# Altium schematic symbol library [R] Резисторы.SchLib: 168 symbols (part 2 of 2)
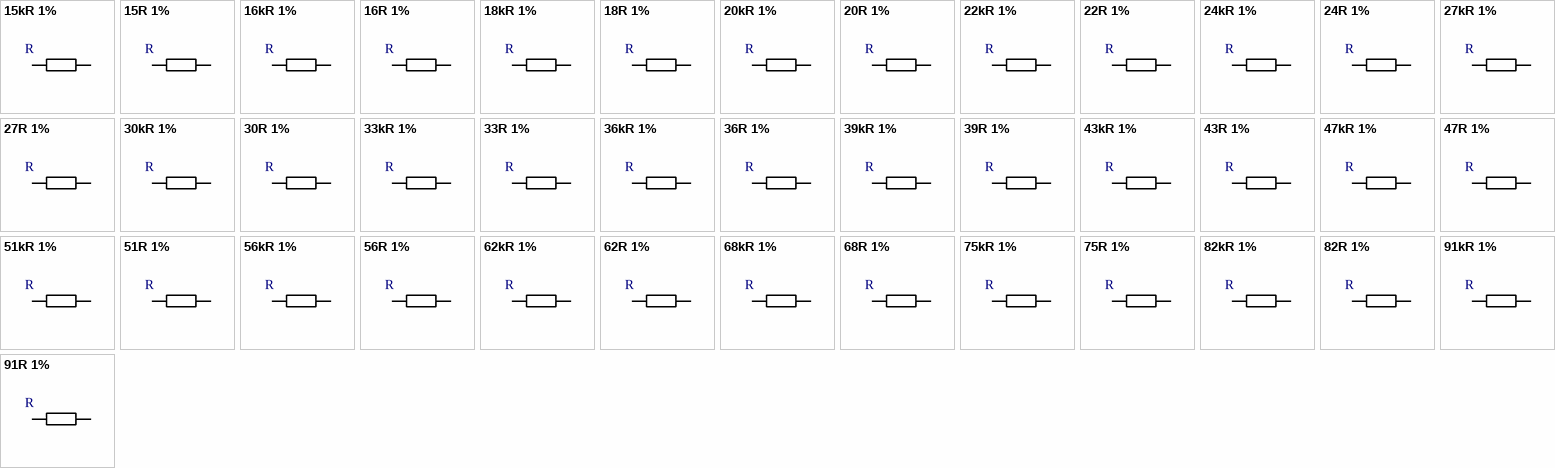
[diagram p5: symbols 15kR 1% to 91R 1%]

## 47kR 1%
designator R
Сопротивление, кОм: 47,0; Допуск: 1%; ТКС, ppm/C°: 200; ComponentLink1Description: Мануал; ComponentLink1URL: https://cdn.promelec.ru/upload/items/2020/01/22/RC0075-RC2512_Yageoo_SMD-R_.pdf?_gl=1*1iqht8i*_ga*MTI0MzM3MDg3NS4xNzIyNzAwMzYz*_ga_LY608YRQ43*MTcyNTExODQ4Mi41LjEuMTcyNTEyNDIzMC4wLjAuMA..; Мощность, Вт: *
footprint RC 0603
footprint RC 0201
footprint RC 0402
footprint RC 0805
footprint RC 1206
footprint RC 2010
footprint RC 2512
pins: 1, 2

## 47R 1%
designator R
Сопротивление, кОм: 0,047; Допуск: 1%; ТКС, ppm/C°: 200; ComponentLink1Description: Мануал; ComponentLink1URL: https://cdn.promelec.ru/upload/items/2020/01/22/RC0075-RC2512_Yageoo_SMD-R_.pdf?_gl=1*1iqht8i*_ga*MTI0MzM3MDg3NS4xNzIyNzAwMzYz*_ga_LY608YRQ43*MTcyNTExODQ4Mi41LjEuMTcyNTEyNDIzMC4wLjAuMA..; Мощность, Вт: *
footprint RC 0603
footprint RC 0201
footprint RC 0402
footprint RC 0805
footprint RC 1206
footprint RC 2010
footprint RC 2512
pins: 1, 2

## 51kR 1%
designator R
Сопротивление, кОм: 51,0; Допуск: 1%; ТКС, ppm/C°: 200; ComponentLink1Description: Мануал; ComponentLink1URL: https://cdn.promelec.ru/upload/items/2020/01/22/RC0075-RC2512_Yageoo_SMD-R_.pdf?_gl=1*1iqht8i*_ga*MTI0MzM3MDg3NS4xNzIyNzAwMzYz*_ga_LY608YRQ43*MTcyNTExODQ4Mi41LjEuMTcyNTEyNDIzMC4wLjAuMA..; Мощность, Вт: *
footprint RC 0603
footprint RC 0201
footprint RC 0402
footprint RC 0805
footprint RC 1206
footprint RC 2010
footprint RC 2512
pins: 1, 2

## 51R 1%
designator R
Сопротивление, кОм: 0,051; Допуск: 1%; ТКС, ppm/C°: 200; ComponentLink1Description: Мануал; ComponentLink1URL: https://cdn.promelec.ru/upload/items/2020/01/22/RC0075-RC2512_Yageoo_SMD-R_.pdf?_gl=1*1iqht8i*_ga*MTI0MzM3MDg3NS4xNzIyNzAwMzYz*_ga_LY608YRQ43*MTcyNTExODQ4Mi41LjEuMTcyNTEyNDIzMC4wLjAuMA..; Мощность, Вт: *
footprint RC 0603
footprint RC 0201
footprint RC 0402
footprint RC 0805
footprint RC 1206
footprint RC 2010
footprint RC 2512
pins: 1, 2

## 56kR 1%
designator R
Сопротивление, кОм: 56,0; Допуск: 1%; ТКС, ppm/C°: 200; ComponentLink1Description: Мануал; ComponentLink1URL: https://cdn.promelec.ru/upload/items/2020/01/22/RC0075-RC2512_Yageoo_SMD-R_.pdf?_gl=1*1iqht8i*_ga*MTI0MzM3MDg3NS4xNzIyNzAwMzYz*_ga_LY608YRQ43*MTcyNTExODQ4Mi41LjEuMTcyNTEyNDIzMC4wLjAuMA..; Мощность, Вт: *
footprint RC 0603
footprint RC 0201
footprint RC 0402
footprint RC 0805
footprint RC 1206
footprint RC 2010
footprint RC 2512
pins: 1, 2

## 56R 1%
designator R
Сопротивление, кОм: 0,056; Допуск: 1%; ТКС, ppm/C°: 200; ComponentLink1Description: Мануал; ComponentLink1URL: https://cdn.promelec.ru/upload/items/2020/01/22/RC0075-RC2512_Yageoo_SMD-R_.pdf?_gl=1*1iqht8i*_ga*MTI0MzM3MDg3NS4xNzIyNzAwMzYz*_ga_LY608YRQ43*MTcyNTExODQ4Mi41LjEuMTcyNTEyNDIzMC4wLjAuMA..; Мощность, Вт: *
footprint RC 0603
footprint RC 0201
footprint RC 0402
footprint RC 0805
footprint RC 1206
footprint RC 2010
footprint RC 2512
pins: 1, 2

## 62kR 1%
designator R
Сопротивление, кОм: 62,0; Допуск: 1%; ТКС, ppm/C°: 200; ComponentLink1Description: Мануал; ComponentLink1URL: https://cdn.promelec.ru/upload/items/2020/01/22/RC0075-RC2512_Yageoo_SMD-R_.pdf?_gl=1*1iqht8i*_ga*MTI0MzM3MDg3NS4xNzIyNzAwMzYz*_ga_LY608YRQ43*MTcyNTExODQ4Mi41LjEuMTcyNTEyNDIzMC4wLjAuMA..; Мощность, Вт: *
footprint RC 0603
footprint RC 0201
footprint RC 0402
footprint RC 0805
footprint RC 1206
footprint RC 2010
footprint RC 2512
pins: 1, 2

## 62R 1%
designator R
Сопротивление, кОм: 62,0; Допуск: 1%; ТКС, ppm/C°: 200; ComponentLink1Description: Мануал; ComponentLink1URL: https://cdn.promelec.ru/upload/items/2020/01/22/RC0075-RC2512_Yageoo_SMD-R_.pdf?_gl=1*1iqht8i*_ga*MTI0MzM3MDg3NS4xNzIyNzAwMzYz*_ga_LY608YRQ43*MTcyNTExODQ4Mi41LjEuMTcyNTEyNDIzMC4wLjAuMA..; Мощность, Вт: *
footprint RC 0603
footprint RC 0201
footprint RC 0402
footprint RC 0805
footprint RC 1206
footprint RC 2010
footprint RC 2512
pins: 1, 2

## 68kR 1%
designator R
Сопротивление, кОм: 68,0; Допуск: 1%; ТКС, ppm/C°: 200; ComponentLink1Description: Мануал; ComponentLink1URL: https://cdn.promelec.ru/upload/items/2020/01/22/RC0075-RC2512_Yageoo_SMD-R_.pdf?_gl=1*1iqht8i*_ga*MTI0MzM3MDg3NS4xNzIyNzAwMzYz*_ga_LY608YRQ43*MTcyNTExODQ4Mi41LjEuMTcyNTEyNDIzMC4wLjAuMA..; Мощность, Вт: *
footprint RC 0603
footprint RC 0201
footprint RC 0402
footprint RC 0805
footprint RC 1206
footprint RC 2010
footprint RC 2512
pins: 1, 2

## 68R 1%
designator R
Сопротивление, кОм: 0,068; Допуск: 1%; ТКС, ppm/C°: 200; ComponentLink1Description: Мануал; ComponentLink1URL: https://cdn.promelec.ru/upload/items/2020/01/22/RC0075-RC2512_Yageoo_SMD-R_.pdf?_gl=1*1iqht8i*_ga*MTI0MzM3MDg3NS4xNzIyNzAwMzYz*_ga_LY608YRQ43*MTcyNTExODQ4Mi41LjEuMTcyNTEyNDIzMC4wLjAuMA..; Мощность, Вт: *
footprint RC 0603
footprint RC 0201
footprint RC 0402
footprint RC 0805
footprint RC 1206
footprint RC 2010
footprint RC 2512
pins: 1, 2

## 75kR 1%
designator R
Сопротивление, кОм: 75,0; Допуск: 1%; ТКС, ppm/C°: 200; ComponentLink1Description: Мануал; ComponentLink1URL: https://cdn.promelec.ru/upload/items/2020/01/22/RC0075-RC2512_Yageoo_SMD-R_.pdf?_gl=1*1iqht8i*_ga*MTI0MzM3MDg3NS4xNzIyNzAwMzYz*_ga_LY608YRQ43*MTcyNTExODQ4Mi41LjEuMTcyNTEyNDIzMC4wLjAuMA..; Мощность, Вт: *
footprint RC 0603
footprint RC 0201
footprint RC 0402
footprint RC 0805
footprint RC 1206
footprint RC 2010
footprint RC 2512
pins: 1, 2

## 75R 1%
designator R
Сопротивление, кОм: 0,075; Допуск: 1%; ТКС, ppm/C°: 200; ComponentLink1Description: Мануал; ComponentLink1URL: https://cdn.promelec.ru/upload/items/2020/01/22/RC0075-RC2512_Yageoo_SMD-R_.pdf?_gl=1*1iqht8i*_ga*MTI0MzM3MDg3NS4xNzIyNzAwMzYz*_ga_LY608YRQ43*MTcyNTExODQ4Mi41LjEuMTcyNTEyNDIzMC4wLjAuMA..; Мощность, Вт: *
footprint RC 0603
footprint RC 0201
footprint RC 0402
footprint RC 0805
footprint RC 1206
footprint RC 2010
footprint RC 2512
pins: 1, 2

## 82kR 1%
designator R
Сопротивление, кОм: 82,0; Допуск: 1%; ТКС, ppm/C°: 200; ComponentLink1Description: Мануал; ComponentLink1URL: https://cdn.promelec.ru/upload/items/2020/01/22/RC0075-RC2512_Yageoo_SMD-R_.pdf?_gl=1*1iqht8i*_ga*MTI0MzM3MDg3NS4xNzIyNzAwMzYz*_ga_LY608YRQ43*MTcyNTExODQ4Mi41LjEuMTcyNTEyNDIzMC4wLjAuMA..; Мощность, Вт: *
footprint RC 0603
footprint RC 0201
footprint RC 0402
footprint RC 0805
footprint RC 1206
footprint RC 2010
footprint RC 2512
pins: 1, 2

## 82R 1%
designator R
Сопротивление, кОм: 0,082; Допуск: 1%; ТКС, ppm/C°: 200; ComponentLink1Description: Мануал; ComponentLink1URL: https://cdn.promelec.ru/upload/items/2020/01/22/RC0075-RC2512_Yageoo_SMD-R_.pdf?_gl=1*1iqht8i*_ga*MTI0MzM3MDg3NS4xNzIyNzAwMzYz*_ga_LY608YRQ43*MTcyNTExODQ4Mi41LjEuMTcyNTEyNDIzMC4wLjAuMA..; Мощность, Вт: *
footprint RC 0603
footprint RC 0201
footprint RC 0402
footprint RC 0805
footprint RC 1206
footprint RC 2010
footprint RC 2512
pins: 1, 2

## 91kR 1%
designator R
Сопротивление, кОм: 91,0; Допуск: 1%; ТКС, ppm/C°: 200; ComponentLink1Description: Мануал; ComponentLink1URL: https://cdn.promelec.ru/upload/items/2020/01/22/RC0075-RC2512_Yageoo_SMD-R_.pdf?_gl=1*1iqht8i*_ga*MTI0MzM3MDg3NS4xNzIyNzAwMzYz*_ga_LY608YRQ43*MTcyNTExODQ4Mi41LjEuMTcyNTEyNDIzMC4wLjAuMA..; Мощность, Вт: *
footprint RC 0603
footprint RC 0201
footprint RC 0402
footprint RC 0805
footprint RC 1206
footprint RC 2010
footprint RC 2512
pins: 1, 2

## 91R 1%
designator R
Сопротивление, кОм: 0,091; Допуск: 1%; ТКС, ppm/C°: 200; ComponentLink1Description: Мануал; ComponentLink1URL: https://cdn.promelec.ru/upload/items/2020/01/22/RC0075-RC2512_Yageoo_SMD-R_.pdf?_gl=1*1iqht8i*_ga*MTI0MzM3MDg3NS4xNzIyNzAwMzYz*_ga_LY608YRQ43*MTcyNTExODQ4Mi41LjEuMTcyNTEyNDIzMC4wLjAuMA..; Мощность, Вт: *
footprint RC 0603
footprint RC 0201
footprint RC 0402
footprint RC 0805
footprint RC 1206
footprint RC 2010
footprint RC 2512
pins: 1, 2

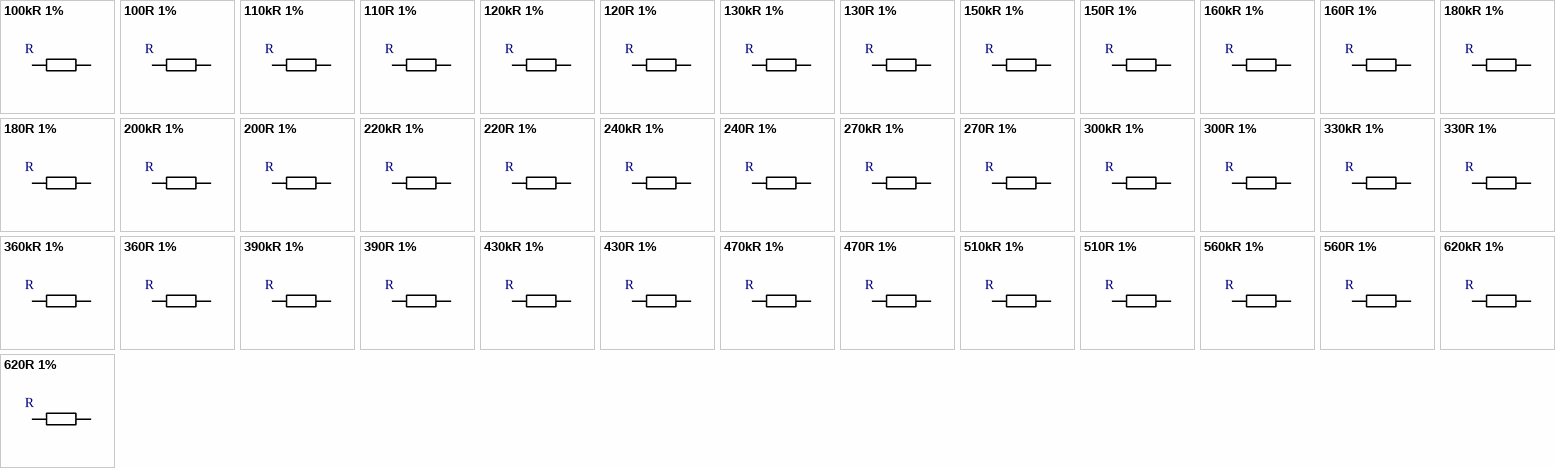
[diagram p3: symbols 100kR 1% to 620R 1%]

## 100kR 1%
designator R
Сопротивление, кОм: 100; Допуск: 1%; ТКС, ppm/C°: 200; ComponentLink1Description: Мануал; ComponentLink1URL: https://cdn.promelec.ru/upload/items/2020/01/22/RC0075-RC2512_Yageoo_SMD-R_.pdf?_gl=1*1iqht8i*_ga*MTI0MzM3MDg3NS4xNzIyNzAwMzYz*_ga_LY608YRQ43*MTcyNTExODQ4Mi41LjEuMTcyNTEyNDIzMC4wLjAuMA..; Мощность, Вт: *
footprint RC 0603
footprint RC 0201
footprint RC 0402
footprint RC 0805
footprint RC 1206
footprint RC 2010
footprint RC 2512
pins: 1, 2

## 100R 1%
designator R
Сопротивление, кОм: 0,10; Допуск: 1%; ТКС, ppm/C°: 200; ComponentLink1Description: Мануал; ComponentLink1URL: https://cdn.promelec.ru/upload/items/2020/01/22/RC0075-RC2512_Yageoo_SMD-R_.pdf?_gl=1*1iqht8i*_ga*MTI0MzM3MDg3NS4xNzIyNzAwMzYz*_ga_LY608YRQ43*MTcyNTExODQ4Mi41LjEuMTcyNTEyNDIzMC4wLjAuMA..; Мощность, Вт: *
footprint RC 0603
footprint RC 0201
footprint RC 0402
footprint RC 0805
footprint RC 1206
footprint RC 2010
footprint RC 2512
pins: 1, 2

## 110kR 1%
designator R
Сопротивление, кОм: 110; Допуск: 1%; ТКС, ppm/C°: 200; ComponentLink1Description: Мануал; ComponentLink1URL: https://cdn.promelec.ru/upload/items/2020/01/22/RC0075-RC2512_Yageoo_SMD-R_.pdf?_gl=1*1iqht8i*_ga*MTI0MzM3MDg3NS4xNzIyNzAwMzYz*_ga_LY608YRQ43*MTcyNTExODQ4Mi41LjEuMTcyNTEyNDIzMC4wLjAuMA..; Мощность, Вт: *
footprint RC 0603
footprint RC 0201
footprint RC 0402
footprint RC 0805
footprint RC 1206
footprint RC 2010
footprint RC 2512
pins: 1, 2

## 110R 1%
designator R
Сопротивление, кОм: 0,11; Допуск: 1%; ТКС, ppm/C°: 200; ComponentLink1Description: Мануал; ComponentLink1URL: https://cdn.promelec.ru/upload/items/2020/01/22/RC0075-RC2512_Yageoo_SMD-R_.pdf?_gl=1*1iqht8i*_ga*MTI0MzM3MDg3NS4xNzIyNzAwMzYz*_ga_LY608YRQ43*MTcyNTExODQ4Mi41LjEuMTcyNTEyNDIzMC4wLjAuMA..; Мощность, Вт: *
footprint RC 0603
footprint RC 0201
footprint RC 0402
footprint RC 0805
footprint RC 1206
footprint RC 2010
footprint RC 2512
pins: 1, 2

## 120kR 1%
designator R
Сопротивление, кОм: 120; Допуск: 1%; ТКС, ppm/C°: 200; ComponentLink1Description: Мануал; ComponentLink1URL: https://cdn.promelec.ru/upload/items/2020/01/22/RC0075-RC2512_Yageoo_SMD-R_.pdf?_gl=1*1iqht8i*_ga*MTI0MzM3MDg3NS4xNzIyNzAwMzYz*_ga_LY608YRQ43*MTcyNTExODQ4Mi41LjEuMTcyNTEyNDIzMC4wLjAuMA..; Мощность, Вт: *
footprint RC 0603
footprint RC 0201
footprint RC 0402
footprint RC 0805
footprint RC 1206
footprint RC 2010
footprint RC 2512
pins: 1, 2

## 120R 1%
designator R
Сопротивление, кОм: 0,12; Допуск: 1%; ТКС, ppm/C°: 200; ComponentLink1Description: Мануал; ComponentLink1URL: https://cdn.promelec.ru/upload/items/2020/01/22/RC0075-RC2512_Yageoo_SMD-R_.pdf?_gl=1*1iqht8i*_ga*MTI0MzM3MDg3NS4xNzIyNzAwMzYz*_ga_LY608YRQ43*MTcyNTExODQ4Mi41LjEuMTcyNTEyNDIzMC4wLjAuMA..; Мощность, Вт: *
footprint RC 0603
footprint RC 0201
footprint RC 0402
footprint RC 0805
footprint RC 1206
footprint RC 2010
footprint RC 2512
pins: 1, 2

## 130kR 1%
designator R
Сопротивление, кОм: 130; Допуск: 1%; ТКС, ppm/C°: 200; ComponentLink1Description: Мануал; ComponentLink1URL: https://cdn.promelec.ru/upload/items/2020/01/22/RC0075-RC2512_Yageoo_SMD-R_.pdf?_gl=1*1iqht8i*_ga*MTI0MzM3MDg3NS4xNzIyNzAwMzYz*_ga_LY608YRQ43*MTcyNTExODQ4Mi41LjEuMTcyNTEyNDIzMC4wLjAuMA..; Мощность, Вт: *
footprint RC 0603
footprint RC 0201
footprint RC 0402
footprint RC 0805
footprint RC 1206
footprint RC 2010
footprint RC 2512
pins: 1, 2

## 130R 1%
designator R
Сопротивление, кОм: 0,13; Допуск: 1%; ТКС, ppm/C°: 200; ComponentLink1Description: Мануал; ComponentLink1URL: https://cdn.promelec.ru/upload/items/2020/01/22/RC0075-RC2512_Yageoo_SMD-R_.pdf?_gl=1*1iqht8i*_ga*MTI0MzM3MDg3NS4xNzIyNzAwMzYz*_ga_LY608YRQ43*MTcyNTExODQ4Mi41LjEuMTcyNTEyNDIzMC4wLjAuMA..; Мощность, Вт: *
footprint RC 0603
footprint RC 0201
footprint RC 0402
footprint RC 0805
footprint RC 1206
footprint RC 2010
footprint RC 2512
pins: 1, 2

## 150kR 1%
designator R
Сопротивление, кОм: 150; Допуск: 1%; ТКС, ppm/C°: 200; ComponentLink1Description: Мануал; ComponentLink1URL: https://cdn.promelec.ru/upload/items/2020/01/22/RC0075-RC2512_Yageoo_SMD-R_.pdf?_gl=1*1iqht8i*_ga*MTI0MzM3MDg3NS4xNzIyNzAwMzYz*_ga_LY608YRQ43*MTcyNTExODQ4Mi41LjEuMTcyNTEyNDIzMC4wLjAuMA..; Мощность, Вт: *
footprint RC 0603
footprint RC 0201
footprint RC 0402
footprint RC 0805
footprint RC 1206
footprint RC 2010
footprint RC 2512
pins: 1, 2

## 150R 1%
designator R
Сопротивление, кОм: 0,15; Допуск: 1%; ТКС, ppm/C°: 200; ComponentLink1Description: Мануал; ComponentLink1URL: https://cdn.promelec.ru/upload/items/2020/01/22/RC0075-RC2512_Yageoo_SMD-R_.pdf?_gl=1*1iqht8i*_ga*MTI0MzM3MDg3NS4xNzIyNzAwMzYz*_ga_LY608YRQ43*MTcyNTExODQ4Mi41LjEuMTcyNTEyNDIzMC4wLjAuMA..; Мощность, Вт: *
footprint RC 0603
footprint RC 0201
footprint RC 0402
footprint RC 0805
footprint RC 1206
footprint RC 2010
footprint RC 2512
pins: 1, 2

## 160kR 1%
designator R
Сопротивление, кОм: 160; Допуск: 1%; ТКС, ppm/C°: 200; ComponentLink1Description: Мануал; ComponentLink1URL: https://cdn.promelec.ru/upload/items/2020/01/22/RC0075-RC2512_Yageoo_SMD-R_.pdf?_gl=1*1iqht8i*_ga*MTI0MzM3MDg3NS4xNzIyNzAwMzYz*_ga_LY608YRQ43*MTcyNTExODQ4Mi41LjEuMTcyNTEyNDIzMC4wLjAuMA..; Мощность, Вт: *
footprint RC 0603
footprint RC 0201
footprint RC 0402
footprint RC 0805
footprint RC 1206
footprint RC 2010
footprint RC 2512
pins: 1, 2

## 160R 1%
designator R
Сопротивление, кОм: 0,16; Допуск: 1%; ТКС, ppm/C°: 200; ComponentLink1Description: Мануал; ComponentLink1URL: https://cdn.promelec.ru/upload/items/2020/01/22/RC0075-RC2512_Yageoo_SMD-R_.pdf?_gl=1*1iqht8i*_ga*MTI0MzM3MDg3NS4xNzIyNzAwMzYz*_ga_LY608YRQ43*MTcyNTExODQ4Mi41LjEuMTcyNTEyNDIzMC4wLjAuMA..; Мощность, Вт: *
footprint RC 0603
footprint RC 0201
footprint RC 0402
footprint RC 0805
footprint RC 1206
footprint RC 2010
footprint RC 2512
pins: 1, 2

## 180kR 1%
designator R
Сопротивление, кОм: 180; Допуск: 1%; ТКС, ppm/C°: 200; ComponentLink1Description: Мануал; ComponentLink1URL: https://cdn.promelec.ru/upload/items/2020/01/22/RC0075-RC2512_Yageoo_SMD-R_.pdf?_gl=1*1iqht8i*_ga*MTI0MzM3MDg3NS4xNzIyNzAwMzYz*_ga_LY608YRQ43*MTcyNTExODQ4Mi41LjEuMTcyNTEyNDIzMC4wLjAuMA..; Мощность, Вт: *
footprint RC 0603
footprint RC 0201
footprint RC 0402
footprint RC 0805
footprint RC 1206
footprint RC 2010
footprint RC 2512
pins: 1, 2

## 180R 1%
designator R
Сопротивление, кОм: 0,18; Допуск: 1%; ТКС, ppm/C°: 200; ComponentLink1Description: Мануал; ComponentLink1URL: https://cdn.promelec.ru/upload/items/2020/01/22/RC0075-RC2512_Yageoo_SMD-R_.pdf?_gl=1*1iqht8i*_ga*MTI0MzM3MDg3NS4xNzIyNzAwMzYz*_ga_LY608YRQ43*MTcyNTExODQ4Mi41LjEuMTcyNTEyNDIzMC4wLjAuMA..; Мощность, Вт: *
footprint RC 0603
footprint RC 0201
footprint RC 0402
footprint RC 0805
footprint RC 1206
footprint RC 2010
footprint RC 2512
pins: 1, 2

## 200kR 1%
designator R
Сопротивление, кОм: 200; Допуск: 1%; ComponentLink1Description: Мануал; ComponentLink1URL: https://cdn.promelec.ru/upload/items/2020/01/22/RC0075-RC2512_Yageoo_SMD-R_.pdf?_gl=1*1iqht8i*_ga*MTI0MzM3MDg3NS4xNzIyNzAwMzYz*_ga_LY608YRQ43*MTcyNTExODQ4Mi41LjEuMTcyNTEyNDIzMC4wLjAuMA..; Мощность, Вт: *; ТКС, ppm/C°: 200
footprint RC 0603
footprint RC 0201
footprint RC 0402
footprint RC 0805
footprint RC 1206
footprint RC 2010
footprint RC 2512
pins: 1, 2

## 200R 1%
designator R
Сопротивление, кОм: 0,20; Допуск: 1%; ТКС, ppm/C°: 200; ComponentLink1Description: Мануал; ComponentLink1URL: https://cdn.promelec.ru/upload/items/2020/01/22/RC0075-RC2512_Yageoo_SMD-R_.pdf?_gl=1*1iqht8i*_ga*MTI0MzM3MDg3NS4xNzIyNzAwMzYz*_ga_LY608YRQ43*MTcyNTExODQ4Mi41LjEuMTcyNTEyNDIzMC4wLjAuMA..; Мощность, Вт: *
footprint RC 0603
footprint RC 0201
footprint RC 0402
footprint RC 0805
footprint RC 1206
footprint RC 2010
footprint RC 2512
pins: 1, 2

## 220kR 1%
designator R
Сопротивление, кОм: 220; Допуск: 1%; ТКС, ppm/C°: 200; ComponentLink1Description: Мануал; ComponentLink1URL: https://cdn.promelec.ru/upload/items/2020/01/22/RC0075-RC2512_Yageoo_SMD-R_.pdf?_gl=1*1iqht8i*_ga*MTI0MzM3MDg3NS4xNzIyNzAwMzYz*_ga_LY608YRQ43*MTcyNTExODQ4Mi41LjEuMTcyNTEyNDIzMC4wLjAuMA..; Мощность, Вт: *
footprint RC 0603
footprint RC 0201
footprint RC 0402
footprint RC 0805
footprint RC 1206
footprint RC 2010
footprint RC 2512
pins: 1, 2

## 220R 1%
designator R
Сопротивление, кОм: 0,22; Допуск: 1%; ТКС, ppm/C°: 200; ComponentLink1Description: Мануал; ComponentLink1URL: https://cdn.promelec.ru/upload/items/2020/01/22/RC0075-RC2512_Yageoo_SMD-R_.pdf?_gl=1*1iqht8i*_ga*MTI0MzM3MDg3NS4xNzIyNzAwMzYz*_ga_LY608YRQ43*MTcyNTExODQ4Mi41LjEuMTcyNTEyNDIzMC4wLjAuMA..; Мощность, Вт: *
footprint RC 0603
footprint RC 0201
footprint RC 0402
footprint RC 0805
footprint RC 1206
footprint RC 2010
footprint RC 2512
pins: 1, 2

## 240kR 1%
designator R
Сопротивление, кОм: 240; Допуск: 1%; ТКС, ppm/C°: 200; ComponentLink1Description: Мануал; ComponentLink1URL: https://cdn.promelec.ru/upload/items/2020/01/22/RC0075-RC2512_Yageoo_SMD-R_.pdf?_gl=1*1iqht8i*_ga*MTI0MzM3MDg3NS4xNzIyNzAwMzYz*_ga_LY608YRQ43*MTcyNTExODQ4Mi41LjEuMTcyNTEyNDIzMC4wLjAuMA..; Мощность, Вт: *
footprint RC 0603
footprint RC 0201
footprint RC 0402
footprint RC 0805
footprint RC 1206
footprint RC 2010
footprint RC 2512
pins: 1, 2

## 240R 1%
designator R
Сопротивление, кОм: 0,24; Допуск: 1%; ТКС, ppm/C°: 200; ComponentLink1Description: Мануал; ComponentLink1URL: https://cdn.promelec.ru/upload/items/2020/01/22/RC0075-RC2512_Yageoo_SMD-R_.pdf?_gl=1*1iqht8i*_ga*MTI0MzM3MDg3NS4xNzIyNzAwMzYz*_ga_LY608YRQ43*MTcyNTExODQ4Mi41LjEuMTcyNTEyNDIzMC4wLjAuMA..; Мощность, Вт: *
footprint RC 0603
footprint RC 0201
footprint RC 0402
footprint RC 0805
footprint RC 1206
footprint RC 2010
footprint RC 2512
pins: 1, 2

## 270kR 1%
designator R
Сопротивление, кОм: 270; Допуск: 1%; ТКС, ppm/C°: 200; ComponentLink1Description: Мануал; ComponentLink1URL: https://cdn.promelec.ru/upload/items/2020/01/22/RC0075-RC2512_Yageoo_SMD-R_.pdf?_gl=1*1iqht8i*_ga*MTI0MzM3MDg3NS4xNzIyNzAwMzYz*_ga_LY608YRQ43*MTcyNTExODQ4Mi41LjEuMTcyNTEyNDIzMC4wLjAuMA..; Мощность, Вт: *
footprint RC 0603
footprint RC 0201
footprint RC 0402
footprint RC 0805
footprint RC 1206
footprint RC 2010
footprint RC 2512
pins: 1, 2

## 270R 1%
designator R
Сопротивление, кОм: 0,27; Допуск: 1%; ТКС, ppm/C°: 200; ComponentLink1Description: Мануал; ComponentLink1URL: https://cdn.promelec.ru/upload/items/2020/01/22/RC0075-RC2512_Yageoo_SMD-R_.pdf?_gl=1*1iqht8i*_ga*MTI0MzM3MDg3NS4xNzIyNzAwMzYz*_ga_LY608YRQ43*MTcyNTExODQ4Mi41LjEuMTcyNTEyNDIzMC4wLjAuMA..; Мощность, Вт: *
footprint RC 0603
footprint RC 0201
footprint RC 0402
footprint RC 0805
footprint RC 1206
footprint RC 2010
footprint RC 2512
pins: 1, 2

## 300kR 1%
designator R
Сопротивление, кОм: 300; Допуск: 1%; ТКС, ppm/C°: 200; ComponentLink1Description: Мануал; ComponentLink1URL: https://cdn.promelec.ru/upload/items/2020/01/22/RC0075-RC2512_Yageoo_SMD-R_.pdf?_gl=1*1iqht8i*_ga*MTI0MzM3MDg3NS4xNzIyNzAwMzYz*_ga_LY608YRQ43*MTcyNTExODQ4Mi41LjEuMTcyNTEyNDIzMC4wLjAuMA..; Мощность, Вт: *
footprint RC 0603
footprint RC 0201
footprint RC 0402
footprint RC 0805
footprint RC 1206
footprint RC 2010
footprint RC 2512
pins: 1, 2

## 300R 1%
designator R
Сопротивление, кОм: 0,30; Допуск: 1%; ТКС, ppm/C°: 200; ComponentLink1Description: Мануал; ComponentLink1URL: https://cdn.promelec.ru/upload/items/2020/01/22/RC0075-RC2512_Yageoo_SMD-R_.pdf?_gl=1*1iqht8i*_ga*MTI0MzM3MDg3NS4xNzIyNzAwMzYz*_ga_LY608YRQ43*MTcyNTExODQ4Mi41LjEuMTcyNTEyNDIzMC4wLjAuMA..; Мощность, Вт: *
footprint RC 0603
footprint RC 0201
footprint RC 0402
footprint RC 0805
footprint RC 1206
footprint RC 2010
footprint RC 2512
pins: 1, 2

## 330kR 1%
designator R
Сопротивление, кОм: 330; Допуск: 1%; ТКС, ppm/C°: 200; ComponentLink1Description: Мануал; ComponentLink1URL: https://cdn.promelec.ru/upload/items/2020/01/22/RC0075-RC2512_Yageoo_SMD-R_.pdf?_gl=1*1iqht8i*_ga*MTI0MzM3MDg3NS4xNzIyNzAwMzYz*_ga_LY608YRQ43*MTcyNTExODQ4Mi41LjEuMTcyNTEyNDIzMC4wLjAuMA..; Мощность, Вт: *
footprint RC 0603
footprint RC 0201
footprint RC 0402
footprint RC 0805
footprint RC 1206
footprint RC 2010
footprint RC 2512
pins: 1, 2

## 330R 1%
designator R
Сопротивление, кОм: 0,33; Допуск: 1%; ТКС, ppm/C°: 200; ComponentLink1Description: Мануал; ComponentLink1URL: https://cdn.promelec.ru/upload/items/2020/01/22/RC0075-RC2512_Yageoo_SMD-R_.pdf?_gl=1*1iqht8i*_ga*MTI0MzM3MDg3NS4xNzIyNzAwMzYz*_ga_LY608YRQ43*MTcyNTExODQ4Mi41LjEuMTcyNTEyNDIzMC4wLjAuMA..; Мощность, Вт: *
footprint RC 0603
footprint RC 0201
footprint RC 0402
footprint RC 0805
footprint RC 1206
footprint RC 2010
footprint RC 2512
pins: 1, 2

## 360kR 1%
designator R
Сопротивление, кОм: 360; Допуск: 1%; ТКС, ppm/C°: 200; ComponentLink1Description: Мануал; ComponentLink1URL: https://cdn.promelec.ru/upload/items/2020/01/22/RC0075-RC2512_Yageoo_SMD-R_.pdf?_gl=1*1iqht8i*_ga*MTI0MzM3MDg3NS4xNzIyNzAwMzYz*_ga_LY608YRQ43*MTcyNTExODQ4Mi41LjEuMTcyNTEyNDIzMC4wLjAuMA..; Мощность, Вт: *
footprint RC 0603
footprint RC 0201
footprint RC 0402
footprint RC 0805
footprint RC 1206
footprint RC 2010
footprint RC 2512
pins: 1, 2

## 360R 1%
designator R
Сопротивление, кОм: 0,36; Допуск: 1%; ТКС, ppm/C°: 200; ComponentLink1Description: Мануал; ComponentLink1URL: https://cdn.promelec.ru/upload/items/2020/01/22/RC0075-RC2512_Yageoo_SMD-R_.pdf?_gl=1*1iqht8i*_ga*MTI0MzM3MDg3NS4xNzIyNzAwMzYz*_ga_LY608YRQ43*MTcyNTExODQ4Mi41LjEuMTcyNTEyNDIzMC4wLjAuMA..; Мощность, Вт: *
footprint RC 0603
footprint RC 0201
footprint RC 0402
footprint RC 0805
footprint RC 1206
footprint RC 2010
footprint RC 2512
pins: 1, 2

## 390kR 1%
designator R
Сопротивление, кОм: 390; Допуск: 1%; ТКС, ppm/C°: 200; ComponentLink1Description: Мануал; ComponentLink1URL: https://cdn.promelec.ru/upload/items/2020/01/22/RC0075-RC2512_Yageoo_SMD-R_.pdf?_gl=1*1iqht8i*_ga*MTI0MzM3MDg3NS4xNzIyNzAwMzYz*_ga_LY608YRQ43*MTcyNTExODQ4Mi41LjEuMTcyNTEyNDIzMC4wLjAuMA..; Мощность, Вт: *
footprint RC 0603
footprint RC 0201
footprint RC 0402
footprint RC 0805
footprint RC 1206
footprint RC 2010
footprint RC 2512
pins: 1, 2

## 390R 1%
designator R
Сопротивление, кОм: 0,39; Допуск: 1%; ТКС, ppm/C°: 200; ComponentLink1Description: Мануал; ComponentLink1URL: https://cdn.promelec.ru/upload/items/2020/01/22/RC0075-RC2512_Yageoo_SMD-R_.pdf?_gl=1*1iqht8i*_ga*MTI0MzM3MDg3NS4xNzIyNzAwMzYz*_ga_LY608YRQ43*MTcyNTExODQ4Mi41LjEuMTcyNTEyNDIzMC4wLjAuMA..; Мощность, Вт: *
footprint RC 0603
footprint RC 0201
footprint RC 0402
footprint RC 0805
footprint RC 1206
footprint RC 2010
footprint RC 2512
pins: 1, 2

## 430kR 1%
designator R
Сопротивление, кОм: 430; Допуск: 1%; ТКС, ppm/C°: 200; ComponentLink1Description: Мануал; ComponentLink1URL: https://cdn.promelec.ru/upload/items/2020/01/22/RC0075-RC2512_Yageoo_SMD-R_.pdf?_gl=1*1iqht8i*_ga*MTI0MzM3MDg3NS4xNzIyNzAwMzYz*_ga_LY608YRQ43*MTcyNTExODQ4Mi41LjEuMTcyNTEyNDIzMC4wLjAuMA..; Мощность, Вт: *
footprint RC 0603
footprint RC 0201
footprint RC 0402
footprint RC 0805
footprint RC 1206
footprint RC 2010
footprint RC 2512
pins: 1, 2

## 430R 1%
designator R
Сопротивление, кОм: 0,43; Допуск: 1%; ТКС, ppm/C°: 200; ComponentLink1Description: Мануал; ComponentLink1URL: https://cdn.promelec.ru/upload/items/2020/01/22/RC0075-RC2512_Yageoo_SMD-R_.pdf?_gl=1*1iqht8i*_ga*MTI0MzM3MDg3NS4xNzIyNzAwMzYz*_ga_LY608YRQ43*MTcyNTExODQ4Mi41LjEuMTcyNTEyNDIzMC4wLjAuMA..; Мощность, Вт: *
footprint RC 0603
footprint RC 0201
footprint RC 0402
footprint RC 0805
footprint RC 1206
footprint RC 2010
footprint RC 2512
pins: 1, 2

## 470kR 1%
designator R
Сопротивление, кОм: 470; Допуск: 1%; ТКС, ppm/C°: 200; ComponentLink1Description: Мануал; ComponentLink1URL: https://cdn.promelec.ru/upload/items/2020/01/22/RC0075-RC2512_Yageoo_SMD-R_.pdf?_gl=1*1iqht8i*_ga*MTI0MzM3MDg3NS4xNzIyNzAwMzYz*_ga_LY608YRQ43*MTcyNTExODQ4Mi41LjEuMTcyNTEyNDIzMC4wLjAuMA..; Мощность, Вт: *
footprint RC 0603
footprint RC 0201
footprint RC 0402
footprint RC 0805
footprint RC 1206
footprint RC 2010
footprint RC 2512
pins: 1, 2

## 470R 1%
designator R
Сопротивление, кОм: 0,47; Допуск: 1%; ТКС, ppm/C°: 200; ComponentLink1Description: Мануал; ComponentLink1URL: https://cdn.promelec.ru/upload/items/2020/01/22/RC0075-RC2512_Yageoo_SMD-R_.pdf?_gl=1*1iqht8i*_ga*MTI0MzM3MDg3NS4xNzIyNzAwMzYz*_ga_LY608YRQ43*MTcyNTExODQ4Mi41LjEuMTcyNTEyNDIzMC4wLjAuMA..; Мощность, Вт: *
footprint RC 0603
footprint RC 0201
footprint RC 0402
footprint RC 0805
footprint RC 1206
footprint RC 2010
footprint RC 2512
pins: 1, 2

## 510kR 1%
designator R
Сопротивление, кОм: 510; Допуск: 1%; ТКС, ppm/C°: 200; ComponentLink1Description: Мануал; ComponentLink1URL: https://cdn.promelec.ru/upload/items/2020/01/22/RC0075-RC2512_Yageoo_SMD-R_.pdf?_gl=1*1iqht8i*_ga*MTI0MzM3MDg3NS4xNzIyNzAwMzYz*_ga_LY608YRQ43*MTcyNTExODQ4Mi41LjEuMTcyNTEyNDIzMC4wLjAuMA..; Мощность, Вт: *
footprint RC 0603
footprint RC 0201
footprint RC 0402
footprint RC 0805
footprint RC 1206
footprint RC 2010
footprint RC 2512
pins: 1, 2

## 510R 1%
designator R
Сопротивление, кОм: 0,51; Допуск: 1%; ТКС, ppm/C°: 200; ComponentLink1Description: Мануал; ComponentLink1URL: https://cdn.promelec.ru/upload/items/2020/01/22/RC0075-RC2512_Yageoo_SMD-R_.pdf?_gl=1*1iqht8i*_ga*MTI0MzM3MDg3NS4xNzIyNzAwMzYz*_ga_LY608YRQ43*MTcyNTExODQ4Mi41LjEuMTcyNTEyNDIzMC4wLjAuMA..; Мощность, Вт: *
footprint RC 0603
footprint RC 0201
footprint RC 0402
footprint RC 0805
footprint RC 1206
footprint RC 2010
footprint RC 2512
pins: 1, 2

## 560kR 1%
designator R
Сопротивление, кОм: 560; Допуск: 1%; ТКС, ppm/C°: 200; ComponentLink1Description: Мануал; ComponentLink1URL: https://cdn.promelec.ru/upload/items/2020/01/22/RC0075-RC2512_Yageoo_SMD-R_.pdf?_gl=1*1iqht8i*_ga*MTI0MzM3MDg3NS4xNzIyNzAwMzYz*_ga_LY608YRQ43*MTcyNTExODQ4Mi41LjEuMTcyNTEyNDIzMC4wLjAuMA..; Мощность, Вт: *
footprint RC 0603
footprint RC 0201
footprint RC 0402
footprint RC 0805
footprint RC 1206
footprint RC 2010
footprint RC 2512
pins: 1, 2

## 560R 1%
designator R
Сопротивление, кОм: 0,56; Допуск: 1%; ТКС, ppm/C°: 200; ComponentLink1Description: Мануал; ComponentLink1URL: https://cdn.promelec.ru/upload/items/2020/01/22/RC0075-RC2512_Yageoo_SMD-R_.pdf?_gl=1*1iqht8i*_ga*MTI0MzM3MDg3NS4xNzIyNzAwMzYz*_ga_LY608YRQ43*MTcyNTExODQ4Mi41LjEuMTcyNTEyNDIzMC4wLjAuMA..; Мощность, Вт: *
footprint RC 0603
footprint RC 0201
footprint RC 0402
footprint RC 0805
footprint RC 1206
footprint RC 2010
footprint RC 2512
pins: 1, 2

## 620kR 1%
designator R
Сопротивление, кОм: 620; Допуск: 1%; ТКС, ppm/C°: 200; ComponentLink1Description: Мануал; ComponentLink1URL: https://cdn.promelec.ru/upload/items/2020/01/22/RC0075-RC2512_Yageoo_SMD-R_.pdf?_gl=1*1iqht8i*_ga*MTI0MzM3MDg3NS4xNzIyNzAwMzYz*_ga_LY608YRQ43*MTcyNTExODQ4Mi41LjEuMTcyNTEyNDIzMC4wLjAuMA..; Мощность, Вт: *
footprint RC 0603
footprint RC 0201
footprint RC 0402
footprint RC 0805
footprint RC 1206
footprint RC 2010
footprint RC 2512
pins: 1, 2

## 620R 1%
designator R
Сопротивление, кОм: 0,62; Допуск: 1%; ТКС, ppm/C°: 200; ComponentLink1Description: Мануал; ComponentLink1URL: https://cdn.promelec.ru/upload/items/2020/01/22/RC0075-RC2512_Yageoo_SMD-R_.pdf?_gl=1*1iqht8i*_ga*MTI0MzM3MDg3NS4xNzIyNzAwMzYz*_ga_LY608YRQ43*MTcyNTExODQ4Mi41LjEuMTcyNTEyNDIzMC4wLjAuMA..; Мощность, Вт: *
footprint RC 0603
footprint RC 0201
footprint RC 0402
footprint RC 0805
footprint RC 1206
footprint RC 2010
footprint RC 2512
pins: 1, 2

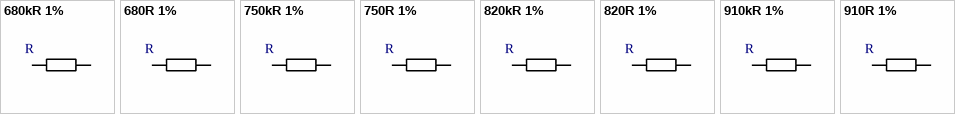
[diagram p4: symbols 680kR 1% to 910R 1%]

## 680kR 1%
designator R
Сопротивление, кОм: 680; Допуск: 1%; ТКС, ppm/C°: 200; ComponentLink1Description: Мануал; ComponentLink1URL: https://cdn.promelec.ru/upload/items/2020/01/22/RC0075-RC2512_Yageoo_SMD-R_.pdf?_gl=1*1iqht8i*_ga*MTI0MzM3MDg3NS4xNzIyNzAwMzYz*_ga_LY608YRQ43*MTcyNTExODQ4Mi41LjEuMTcyNTEyNDIzMC4wLjAuMA..; Мощность, Вт: *
footprint RC 0603
footprint RC 0201
footprint RC 0402
footprint RC 0805
footprint RC 1206
footprint RC 2010
footprint RC 2512
pins: 1, 2

## 680R 1%
designator R
Сопротивление, кОм: 0,68; Допуск: 1%; ТКС, ppm/C°: 200; ComponentLink1Description: Мануал; ComponentLink1URL: https://cdn.promelec.ru/upload/items/2020/01/22/RC0075-RC2512_Yageoo_SMD-R_.pdf?_gl=1*1iqht8i*_ga*MTI0MzM3MDg3NS4xNzIyNzAwMzYz*_ga_LY608YRQ43*MTcyNTExODQ4Mi41LjEuMTcyNTEyNDIzMC4wLjAuMA..; Мощность, Вт: *
footprint RC 0603
footprint RC 0201
footprint RC 0402
footprint RC 0805
footprint RC 1206
footprint RC 2010
footprint RC 2512
pins: 1, 2

## 750kR 1%
designator R
Сопротивление, кОм: 750; Допуск: 1%; ТКС, ppm/C°: 200; ComponentLink1Description: Мануал; ComponentLink1URL: https://cdn.promelec.ru/upload/items/2020/01/22/RC0075-RC2512_Yageoo_SMD-R_.pdf?_gl=1*1iqht8i*_ga*MTI0MzM3MDg3NS4xNzIyNzAwMzYz*_ga_LY608YRQ43*MTcyNTExODQ4Mi41LjEuMTcyNTEyNDIzMC4wLjAuMA..; Мощность, Вт: *
footprint RC 0603
footprint RC 0201
footprint RC 0402
footprint RC 0805
footprint RC 1206
footprint RC 2010
footprint RC 2512
pins: 1, 2

## 750R 1%
designator R
Сопротивление, кОм: 0,75; Допуск: 1%; ТКС, ppm/C°: 200; ComponentLink1Description: Мануал; ComponentLink1URL: https://cdn.promelec.ru/upload/items/2020/01/22/RC0075-RC2512_Yageoo_SMD-R_.pdf?_gl=1*1iqht8i*_ga*MTI0MzM3MDg3NS4xNzIyNzAwMzYz*_ga_LY608YRQ43*MTcyNTExODQ4Mi41LjEuMTcyNTEyNDIzMC4wLjAuMA..; Мощность, Вт: *
footprint RC 0603
footprint RC 0201
footprint RC 0402
footprint RC 0805
footprint RC 1206
footprint RC 2010
footprint RC 2512
pins: 1, 2

## 820kR 1%
designator R
Сопротивление, кОм: 820; Допуск: 1%; ТКС, ppm/C°: 200; ComponentLink1Description: Мануал; ComponentLink1URL: https://cdn.promelec.ru/upload/items/2020/01/22/RC0075-RC2512_Yageoo_SMD-R_.pdf?_gl=1*1iqht8i*_ga*MTI0MzM3MDg3NS4xNzIyNzAwMzYz*_ga_LY608YRQ43*MTcyNTExODQ4Mi41LjEuMTcyNTEyNDIzMC4wLjAuMA..; Мощность, Вт: *
footprint RC 0603
footprint RC 0201
footprint RC 0402
footprint RC 0805
footprint RC 1206
footprint RC 2010
footprint RC 2512
pins: 1, 2

## 820R 1%
designator R
Сопротивление, кОм: 0,82; Допуск: 1%; ТКС, ppm/C°: 200; ComponentLink1Description: Мануал; ComponentLink1URL: https://cdn.promelec.ru/upload/items/2020/01/22/RC0075-RC2512_Yageoo_SMD-R_.pdf?_gl=1*1iqht8i*_ga*MTI0MzM3MDg3NS4xNzIyNzAwMzYz*_ga_LY608YRQ43*MTcyNTExODQ4Mi41LjEuMTcyNTEyNDIzMC4wLjAuMA..; Мощность, Вт: *
footprint RC 0603
footprint RC 0201
footprint RC 0402
footprint RC 0805
footprint RC 1206
footprint RC 2010
footprint RC 2512
pins: 1, 2

## 910kR 1%
designator R
Сопротивление, кОм: 910; Допуск: 1%; ТКС, ppm/C°: 200; ComponentLink1Description: Мануал; ComponentLink1URL: https://cdn.promelec.ru/upload/items/2020/01/22/RC0075-RC2512_Yageoo_SMD-R_.pdf?_gl=1*1iqht8i*_ga*MTI0MzM3MDg3NS4xNzIyNzAwMzYz*_ga_LY608YRQ43*MTcyNTExODQ4Mi41LjEuMTcyNTEyNDIzMC4wLjAuMA..; Мощность, Вт: *
footprint RC 0603
footprint RC 0201
footprint RC 0402
footprint RC 0805
footprint RC 1206
footprint RC 2010
footprint RC 2512
pins: 1, 2

## 910R 1%
designator R
Сопротивление, кОм: 0,91; Допуск: 1%; ТКС, ppm/C°: 200; ComponentLink1Description: Мануал; ComponentLink1URL: https://cdn.promelec.ru/upload/items/2020/01/22/RC0075-RC2512_Yageoo_SMD-R_.pdf?_gl=1*1iqht8i*_ga*MTI0MzM3MDg3NS4xNzIyNzAwMzYz*_ga_LY608YRQ43*MTcyNTExODQ4Mi41LjEuMTcyNTEyNDIzMC4wLjAuMA..; Мощность, Вт: *
footprint RC 0603
footprint RC 0201
footprint RC 0402
footprint RC 0805
footprint RC 1206
footprint RC 2010
footprint RC 2512
pins: 1, 2